# EAGLE library part LM2674 (library lm2674)
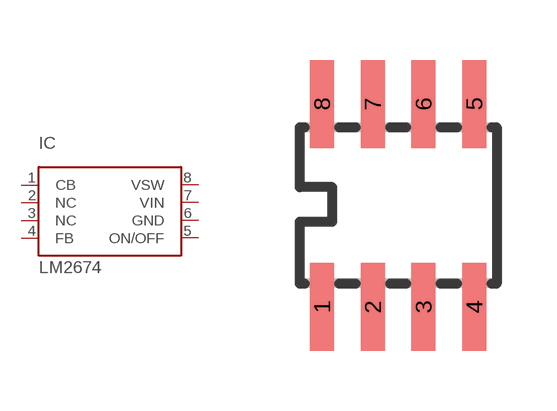
[diagram p0: symbol with the pads of SO8; footprint SO8]

Designator prefix IC

## LM2674  [SO8]
1  CB
2  NC  nc
3  NC  nc
4  FB
5  ON/OFF
6  GND
7  VIN
8  VSW

## Footprint SO8 (pad centres in mm)
smd 0.6 x 2.2: 1 -1.905,-2.54; 2 -0.635,-2.54; 3 0.635,-2.54; 4 1.905,-2.54; 5 1.905,2.54; 6 0.635,2.54; 7 -0.635,2.54; 8 -1.905,2.54